# Altium schematic symbol library TBHDR1xM.SchLib: 10 symbols
Pins are listed as number, name and electrical type; pins without a type are passive.

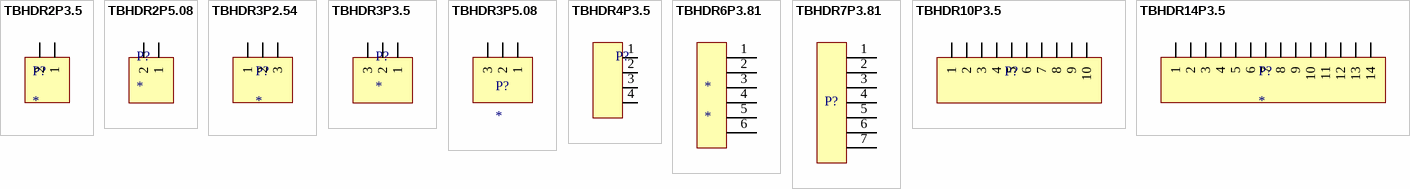
[diagram p0: symbols TBHDR2P3.5 to TBHDR14P3.5]

## TBHDR2P3.5
designator P?
Connector 2 positions with pitch 3.5mm; Digi-Key Part Number: 277-6718-ND
footprint TBHDR2P3.5 (Connector Green 2 positions with pitch 3.5mm)
footprint TBHDR2P3.5VERTICAL
footprint TBR2.5
pins: 1, 2

## TBHDR2P5.08
designator P?
Connector 2 positions with pitch 5.08mm; Digi-Key Part Number: ED1817-ND
footprint TBHDR2P5.08 (Connector Green 2 positions with pitch 5.08mm)
pins: 1, 2

## TBHDR3P2.54
designator P?
Connector 2 positions with pitch 2.54 mm; Digi-Key Part Number: 1195-3646-1-ND
footprint TBHDR3P2.54 (Terminal block 2 positions with pitch 2.54mm)
pins: 1, 2, 3

## TBHDR3P3.5
designator P?
Connector 3 positions with pitch 3.5mm; Digi-Key Part Number: 277-11008-ND
footprint TBHDR3P3.5 (Connector Green 3 positions with pitch 3.5mm)
footprint TBHDR3P3.5Vertical
pins: 1, 2, 3

## TBHDR3P5.08
designator P?
Connector 3 positions with pitch 5.08mm; Digi-Key Part Number: 277-1107-ND
footprint TBHDR3P5.08 (Connector Green 3 positions with pitch 5.08mm)
pins: 1, 2, 3

## TBHDR4P3.5
designator P?, comment TermBlock  (value not drawn)
Connector 4 positions; Digi-Key Part Number: 732-2765-ND
footprint TBHDR4P3.5 (Connector Green 4 positions with pitch 3.5mm)
pins: 1, 2, 3, 4

## TBHDR6P3.81
designator *
footprint TBHDR6P3.81
pins: 1, 2, 3, 4, 5, 6

## TBHDR7P3.81
designator P?
TERM BLOCK HDR 7POS 90DEG 3.81MM; Manufacturer Part Number: 1803329; Manufacturer: Phoenix Contact; Digi-Key Part Number: 277-1211-ND
footprint TBHDR7P3.81
pins: 1, 2, 3, 4, 5, 6, 7

## TBHDR10P3.5
designator P?  (value not drawn)
Connector 10 positions with pitch 3.5 mm; Digi-Key Part Number: 277-5813-ND
footprint TBHDR10P3.5
pins: 1, 2, 3, 4, 5, 6, 7, 8, 9, 10

## TBHDR14P3.5
designator P?
Connector 14 positions with pitch 3.5mm; Digi-Key Part Number: WM7782-ND
footprint TBHDR14P3.5
pins: 1, 2, 3, 4, 5, 6, 7, 8, 9, 10, 11, 12, 13, 14